# Altium footprint library ti84_mini_usb.PcbLib: 2 footprints
Each footprint in its own frame and in the unit in brackets; x right, y up, seen from the top. Pads: shape width x height; smd on the part's side, far side on the other; paste and mask are expansions set on the pad; w line width, h text height; cw(c..) or ccw(c..) is an arc to the next point about the centre after c.
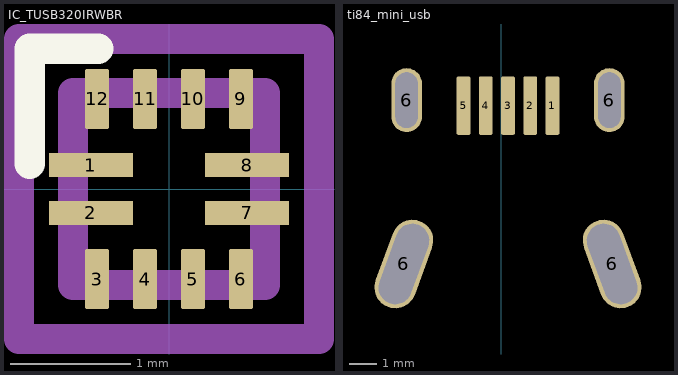
[diagram p0: the footprints below, top view; thin cyan lines are the x and y axes]

## IC_TUSB320IRWBR [mm]
pads (12):
  rrect5% 0.7x0.2 smd: 1(-0.65,0.2) 2(-0.65,-0.2) 7(0.65,-0.2) 8(0.65,0.2)
  rrect13% 0.2x0.5 smd: 3(-0.6,-0.75) 4(-0.2,-0.75) 5(0.2,-0.75) 6(0.6,-0.75) 9(0.6,0.75) 10(0.2,0.75) 11(-0.2,0.75) 12(-0.6,0.75)
F.SilkS:
  lines w0.254: -1.16,0.21 -1.16,1.17 ; -1.15,1.17 -0.59,1.17
F.Paste:
  drawing of 4 lines, arcs and shapes, not listed
F.Mask:
  drawing of 12 lines, arcs and shapes, not listed
F.Fab:
  lines w0.254: -0.8,-0.8 -0.8,0.8 0.8,0.8 0.8,-0.8 -0.8,-0.8
F.CrtYd:
  lines w0.254: -1.25,-1.25 -1.25,1.25 1.25,1.25 1.25,-1.25 -1.25,-1.25

## ti84_mini_usb [mm]
pads (9):
  rrect25% 0.5x2.1 smd: 1(1.85,9.6) 2(1.05,9.6) 3(0.25,9.6) 4(-0.55,9.6) 5(-1.35,9.6)
  rrect100% 1.5x3.3 hole 3 slot 1.2 at 160 deg rot 160: 6(-3.5,3.9)
  rrect100% 1.1x2.3 hole 2 slot 0.8 at 0 deg: 6(-3.4,9.8) 6(3.9,9.8)
  rrect100% 1.5x3.3 hole 3 slot 1.2 at 20 deg rot 20: 6(4,3.9)
F.Fab:
  text "'.Designator'" at -1.439,-2.898 h1